# EAGLE library part 2MM-1X12-M (library J-precidip-880-2mm)
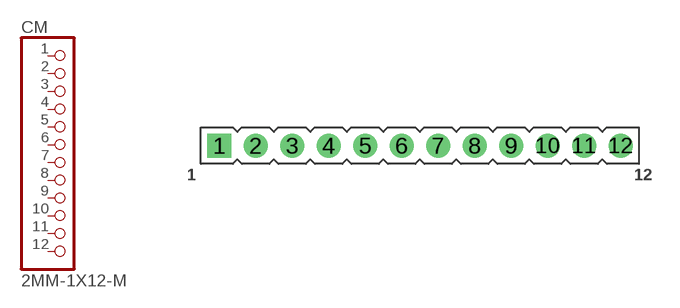
[diagram p2: symbol with the pads of CF-2MM-1X12-PRECIDIP-880; footprint CF-2MM-1X12-PRECIDIP-880]

Designator prefix CM

## 2MM-1X12-M  [CF-2MM-1X12-PRECIDIP-880]
1  1  pas
2  2  pas
3  3  pas
4  4  pas
5  5  pas
6  6  pas
7  7  pas
8  8  pas
9  9  pas
10  10  pas
11  11  pas
12  12  pas

## Footprint CF-2MM-1X12-PRECIDIP-880 (pad centres in mm)
drill 0.8 square: 1 -11,0
drill 0.8: 2 -9,0; 3 -7,0; 4 -5,0; 5 -3,0; 6 -1,0; 7 1,0; 8 3,0; 9 5,0; 10 7,0; 11 9,0; 12 11,0